# EAGLE library part BREAKOUT_SOIC24 (library microbuilder)
Chip Breakout - SOIC24 (Dual-Width)
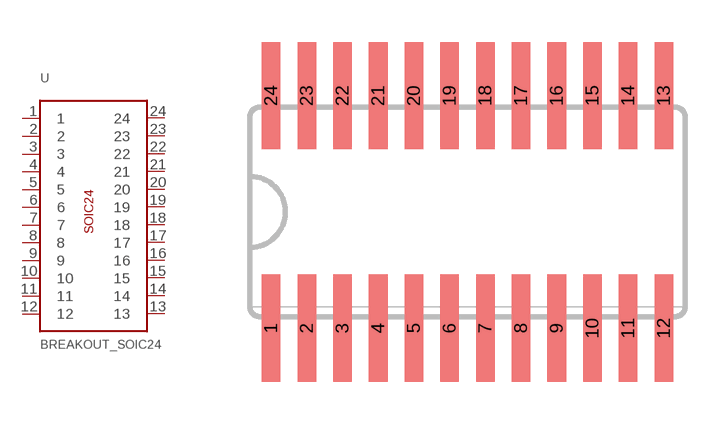
[diagram p143: symbol with the pads of BREAKOUT_SOIC24; footprint BREAKOUT_SOIC24]

Designator prefix U

## BREAKOUT_SOIC24  [BREAKOUT_SOIC24]
1  1
2  2
3  3
4  4
5  5
6  6
7  7
8  8
9  9
10  10
11  11
12  12
13  13
14  14
15  15
16  16
17  17
18  18
19  19
20  20
21  21
22  22
23  23
24  24

## Footprint BREAKOUT_SOIC24 (pad centres in mm)
smd 0.66 x 3.81: 1 -6.985,-4.14; 2 -5.715,-4.14; 3 -4.445,-4.14; 4 -3.175,-4.14; 5 -1.905,-4.14; 6 -0.635,-4.14; 7 0.635,-4.14; 8 1.905,-4.14; 9 3.175,-4.14; 10 4.445,-4.14; 11 5.715,-4.14; 12 6.985,-4.14; 13 6.985,4.14; 14 5.715,4.14; 15 4.445,4.14; 16 3.175,4.14; 17 1.905,4.14; 18 0.635,4.14; 19 -0.635,4.14; 20 -1.905,4.14; 21 -3.175,4.14; 22 -4.445,4.14; 23 -5.715,4.14; 24 -6.985,4.14